# EAGLE library part 6JT8 (library wheat)
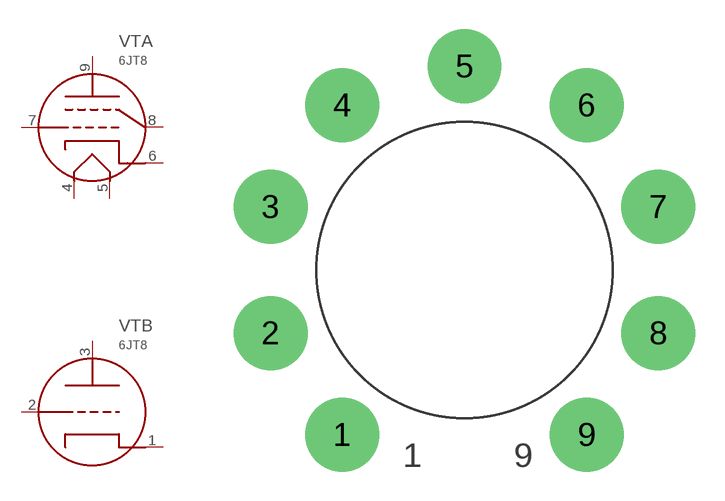
[diagram p294: symbol with the pads of NOVAL_BOTTOM_PCB; footprint NOVAL_BOTTOM_PCB]

Designator prefix VT; gates A=12DY8_1 B=12DY8_2

## 6JT8  [NOVAL_BOTTOM_PCB]
1  B:K  pas
2  B:G1  pas
3  B:P  pas
4  A:F1  pas
5  A:F2  pas
6  A:K  pas
7  A:G1  pas
8  A:G2  pas
9  A:P  pas

## Footprint NOVAL_BOTTOM_PCB (pad centres in mm)
drill 1.93 pad 3.81: 1 -6.299,-8.484; 2 -9.982,-3.251; 3 -9.982,3.251; 4 -6.299,8.484; 5 0,10.49; 6 6.299,8.484; 7 9.982,3.251; 8 9.982,-3.251; 9 6.299,-8.484